# Altium footprint library PCB - CONNECTOR - HEADER - MALE 1X1.PCBLIB: 1 footprints
Each footprint in its own frame and in the unit in brackets; x right, y up, seen from the top. Pads: shape width x height; smd on the part's side, far side on the other; paste and mask are expansions set on the pad; w line width, h text height; cw(c..) or ccw(c..) is an arc to the next point about the centre after c.
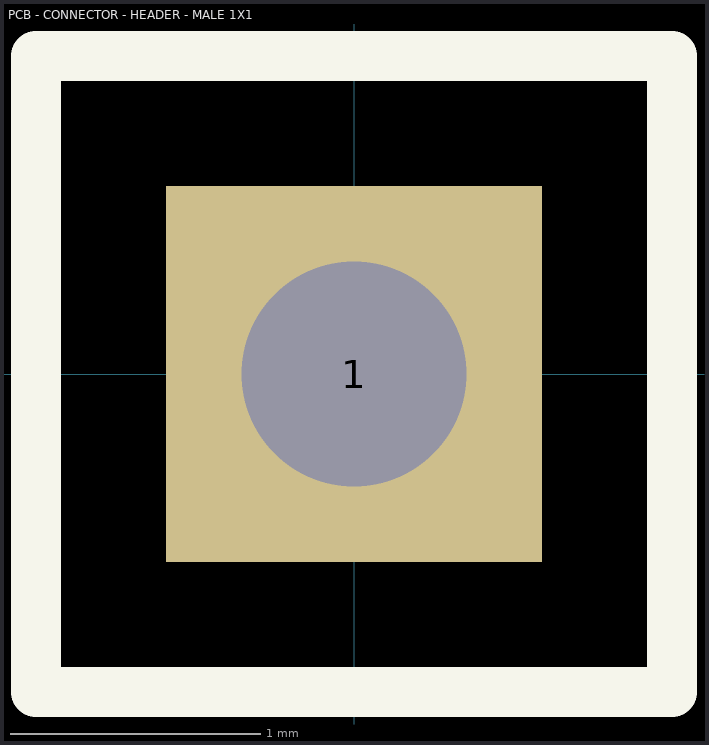
[diagram p0: the footprint, top view; thin cyan lines are the x and y axes]

## PCB - CONNECTOR - HEADER - MALE 1X1 [mm] "Connector; Header; 2 Position"
pads (1):
  rect 1.5x1.5 hole 0.9: 1(0,0)
Top Overlay:
  lines w0.2: -1.27,-1.27 -1.27,1.27 1.27,1.27 1.27,-1.27 -1.27,-1.27
3D body "BG030-01-A-0600-0300-N-G.stp": height 8.55, standoff -2.99, extent -1.25,-1.27 1.25,1.27